# Altium schematic symbol library TRANSISTORS.SchLib: 35 symbols
Pins are listed as number, name and electrical type; pins without a type are passive.

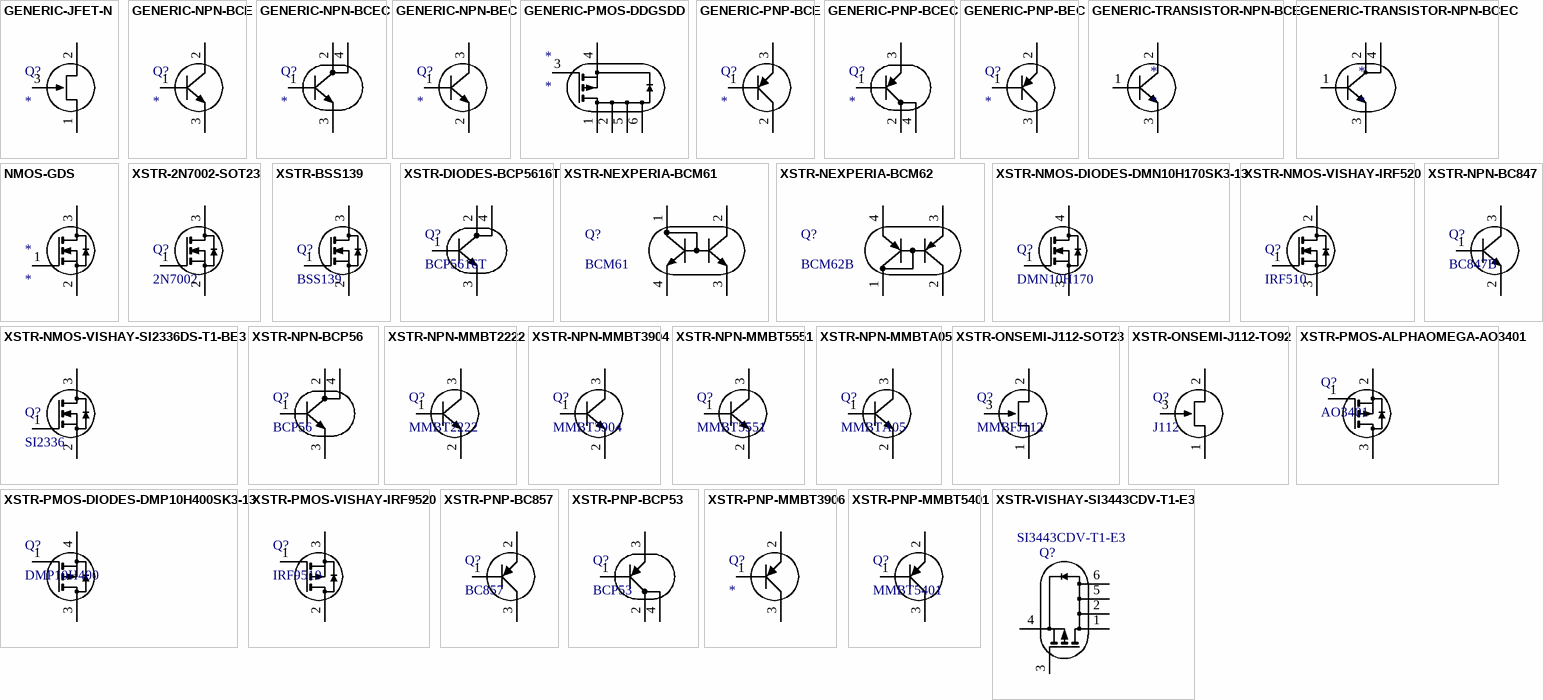
[diagram p0: symbols GENERIC-JFET-N to XSTR-VISHAY-SI3443CDV-T1-E3]

## GENERIC-JFET-N
designator Q?
pins: 1 D, 2 S, 3 G

## GENERIC-NPN-BCE
designator Q?
pins: 1 B, 2 C, 3 E

## GENERIC-NPN-BCEC
designator Q?
pins: 1 B, 2 C, 3 E, 4 C

## GENERIC-NPN-BEC
designator Q?
pins: 1 B, 2 E, 3 C

## GENERIC-PMOS-DDGSDD
designator *
footprint SOT23-6 (SOT23 PACKAGE, 6 PIN (SOT26))
pins: 1 D, 2 D, 3 G1, 4 S, 5 D, 6 D

## GENERIC-PNP-BCE
designator Q?
pins: 1 B, 2 C, 3 E

## GENERIC-PNP-BCEC
designator Q?
pins: 1 B, 2 C, 3 E, 4 C

## GENERIC-PNP-BEC
designator Q?
pins: 1 B, 2 E, 3 C

## GENERIC-TRANSISTOR-NPN-BCE
designator *
pins: 1 B, 2 C, 3 E

## GENERIC-TRANSISTOR-NPN-BCEC
designator *
pins: 1 B, 2 C, 3 E, 4 C

## NMOS-GDS
designator *
pins: 1 G1, 2 S, 3 D

## XSTR-2N7002-SOT23
designator Q?, comment 2N7002
XSTR,NMOS,2N7002,SOT23; Vds: 60V; Idmax: 0.3A; Supplier 1: Future Electronics; Supplier Part Number 1: 8129513; Supplier 2: Mouser; Supplier Part Number 2: 726-2N7002H6327XTSA2; Supplier 3: Future Electronics; Supplier Part Number 3: 8072658; Supplier 4: Future Electronics; Supplier Part Number 4: 9187976; Supplier 5: Avnet; Supplier Part Number 5: 2N7002KT1G; Supplier 6: Mouser; Supplier Part Number 6: 781-2N7002-T1-E3; Package: SOT23
pins: 1 G1, 2 S, 3 D

## XSTR-BSS139
designator Q?, comment BSS139
XSTR,NMOS,BSS139,SOT23; Vds: 60V; Idmax: 0.3A; Package: SOT23
pins: 1 G1, 2 S, 3 D

## XSTR-DIODES-BCP5616T
designator Q?, comment BCP5616T
pins: 1 B, 2 C, 3 E, 4 C

## XSTR-NEXPERIA-BCM61
designator Q?, comment BCM61
XSTR,NPN CURRENT MIRROR PAIR,45V,0.1A,NXP,BCM61
pins: 1 C, 2 C, 3 E, 4 E

## XSTR-NEXPERIA-BCM62
designator Q?, comment BCM62B
XSTR,PNP CURRENT MIRROR PAIR,NXP,BCM62
pins: 1 C, 2 C, 3 E, 4 E

## XSTR-NMOS-DIODES-DMN10H170SK3-13
designator Q?, comment DMN10H170
XSTR,NMOS,100V,12A,DMN10H170SK3-13,DPAK; Manufacturer 1: DIODES; Idmax: 5.6; Package: DPAK; Vds: 100V; Manufacturer Part Number 1: DMN10H170SK3-13
footprint DPAK
pins: 1 G1, 3 S, 4 D

## XSTR-NMOS-VISHAY-IRF520
designator Q?, comment IRF510
XSTR,NMOS,100V,5.6A,IRF510,TO220; Manufacturer 1: VISHAY; Idmax: 5.6; Package: TO220V; Vds: 100V; Manufacturer Part Number 1: IRF510
pins: 1 G1, 2 D, 3 S

## XSTR-NMOS-VISHAY-SI2336DS-T1-BE3
designator Q?, comment SI2336
XSTR,NMOS,30V,4.3A,SI2336DS-T1-BE3.SOT23; Manufacturer 1: VISHAY; Package: SOT23; Vds: 30V; Idmax: 4.3A; DIGIKEY: 742-SI2336DS-T1-BE3CT-ND; Manufacturer Part Number 1: SI2336DS-T1-BE3
footprint SOT23 (SOT23 PACKAGE, 3 PIN)
pins: 1 G1, 2 S, 3 D

## XSTR-NPN-BC847
designator Q?, comment BC847B
XSTR,NPN,45V,0.1A,,BC847B,SOT23
footprint SOT23 (SOT23 PACKAGE, 3 PIN)
pins: 1 B, 2 E, 3 C

## XSTR-NPN-BCP56
designator Q?, comment BCP56
pins: 1 B, 2 C, 3 E, 4 C

## XSTR-NPN-MMBT2222
designator Q?, comment MMBT2222
XSTR,NPN,40V,0.6A,,MMBT2222,SOT23; LCSC: C8512
footprint SOT23 (SOT23 PACKAGE, 3 PIN)
pins: 1 B, 2 E, 3 C

## XSTR-NPN-MMBT3904
designator Q?, comment MMBT3904
XSTR,NPN,SOT23,MMBT3904
footprint SOT23 (SOT23 PACKAGE, 3 PIN)
pins: 1 B, 2 E, 3 C

## XSTR-NPN-MMBT5551
designator Q?, comment MMBT5551
XSTR,NPN,160V,0.6A,SOT23,MMBT5551
footprint SOT23 (SOT23 PACKAGE, 3 PIN)
pins: 1 B, 2 E, 3 C

## XSTR-NPN-MMBTA05
designator Q?, comment MMBTA05
XSTR,NPN,60V,0.5A,SOT23,MMBTA05; Manufacturer 1: MCC; Manufacturer Part Number 1: MMBTA05-TP
footprint SOT23 (SOT23 PACKAGE, 3 PIN)
pins: 1 B, 2 E, 3 C

## XSTR-ONSEMI-J112-SOT23
designator Q?, comment MMBFJ112
XSTR,JFET,NCHAN,ONSEMI,MMBFJ112,SOT23; Manufacturer 1: ONSEMI; Manufacturer Part Number 1: MMBFJ112
pins: 1 D, 2 S, 3 G

## XSTR-ONSEMI-J112-TO92
designator Q?, comment J112
XSTR,JFET,NCHAN,ONSEMI,J112,TO92
pins: 1 D, 2 S, 3 G

## XSTR-PMOS-ALPHAOMEGA-AO3401
designator Q?, comment AO3401
XSTR,PMOS,30V,4A,AO3401,SOT23; Manufacturer 1: ALPHA OMEGA; Manufacturer Part Number 1: AO3401A; Package: DPAK; Vds: 30V; Idmax: 4A; LCSC: C15127
footprint SOT23 (SOT23 PACKAGE, 3 PIN)
pins: 1 G1, 2 S, 3 D

## XSTR-PMOS-DIODES-DMP10H400SK3-13
designator Q?, comment DMP10H400
XSTR,PMOS,100V,5.6A,DMP10H400SK3-13,DPAK; Manufacturer 1: DIODES; Idmax: 9A; Package: DPAK; Vds: 100V; Manufacturer Part Number 1: DMP10H400SK3-13
footprint DPAK
pins: 1 G1, 3 D, 4 S

## XSTR-PMOS-VISHAY-IRF9520
designator Q?, comment IRF9510
XSTR,PMOS,100V,5.6A,IRF9510,TO220; Manufacturer 1: VISHAY; Manufacturer Part Number 1: IRF510; Idmax: 5.6; Package: TO220V; Vds: 100V
pins: 1 G1, 2 D, 3 S

## XSTR-PNP-BC857
designator Q?, comment BC857
XSTR,PNP,SOT23,BC857,SOT23; Manufacturer 1: NEXPERIA; Manufacturer Part Number 1: BC857BW,115; DIGIKEY: 1727-4869-1-ND
footprint SOT23 (SOT23 PACKAGE, 3 PIN)
pins: 1 B, 2 E, 3 C

## XSTR-PNP-BCP53
designator Q?, comment BCP53
pins: 1 B, 2 C, 3 E, 4 C

## XSTR-PNP-MMBT3906
designator Q?
XSTR,PNP,SOT23,MMBT3906
footprint SOT23 (SOT23 PACKAGE, 3 PIN)
pins: 1 B, 2 E, 3 C

## XSTR-PNP-MMBT5401
designator Q?, comment MMBT5401
XSTR,PNP,150V,0.6A,SOT23,MMBT5401; Manufacturer 1: DIOTEC; Manufacturer Part Number 1: MMBT5401
footprint SOT23 (SOT23 PACKAGE, 3 PIN)
pins: 1 B, 2 E, 3 C

## XSTR-VISHAY-SI3443CDV-T1-E3
designator Q?, comment Manufacturer Part Number 1: SI3443CDV-T1-E3  (hidden comment: SI3443)
XSTR,PMOS,20V,5.97A,VISHAY,SI3443,SOT26; DIGIKEY: SI3443CDV-T1-GE3; LCSC: C727385; Manufacturer 1: VISHAY; MOUSER: 781-SI3443CDV-GE3
footprint SOT23-6 (SOT23 PACKAGE, 6 PIN (SOT26))
pins: 1 D, 2 D, 3 G1, 4 S, 5 D, 6 D